# Altium schematic symbol library SW_MOM_DPDT.SchLib: 1 symbol
Pins are listed as number, name and electrical type; pins without a type are passive.

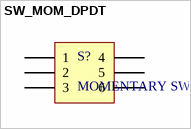
[diagram p0: symbol SW_MOM_DPDT]

## SW_MOM_DPDT
designator S?, comment MOMENTARY SW
Pushbutton Switch DPDT Standard Through Hole, Right Angle; Supplier 1: Digi-Key; Supplier Part Number 1: EG2654-ND
footprint SW_MOM_DPDT
pins: 1, 2, 3, 4, 5, 6